# Altium footprint library Passive components.PcbLib: 29 footprints (part 1 of 2)
Each footprint in its own frame and in the unit in brackets; x right, y up, seen from the top. Pads: shape width x height; smd on the part's side, far side on the other; paste and mask are expansions set on the pad; w line width, h text height; cw(c..) or ccw(c..) is an arc to the next point about the centre after c.
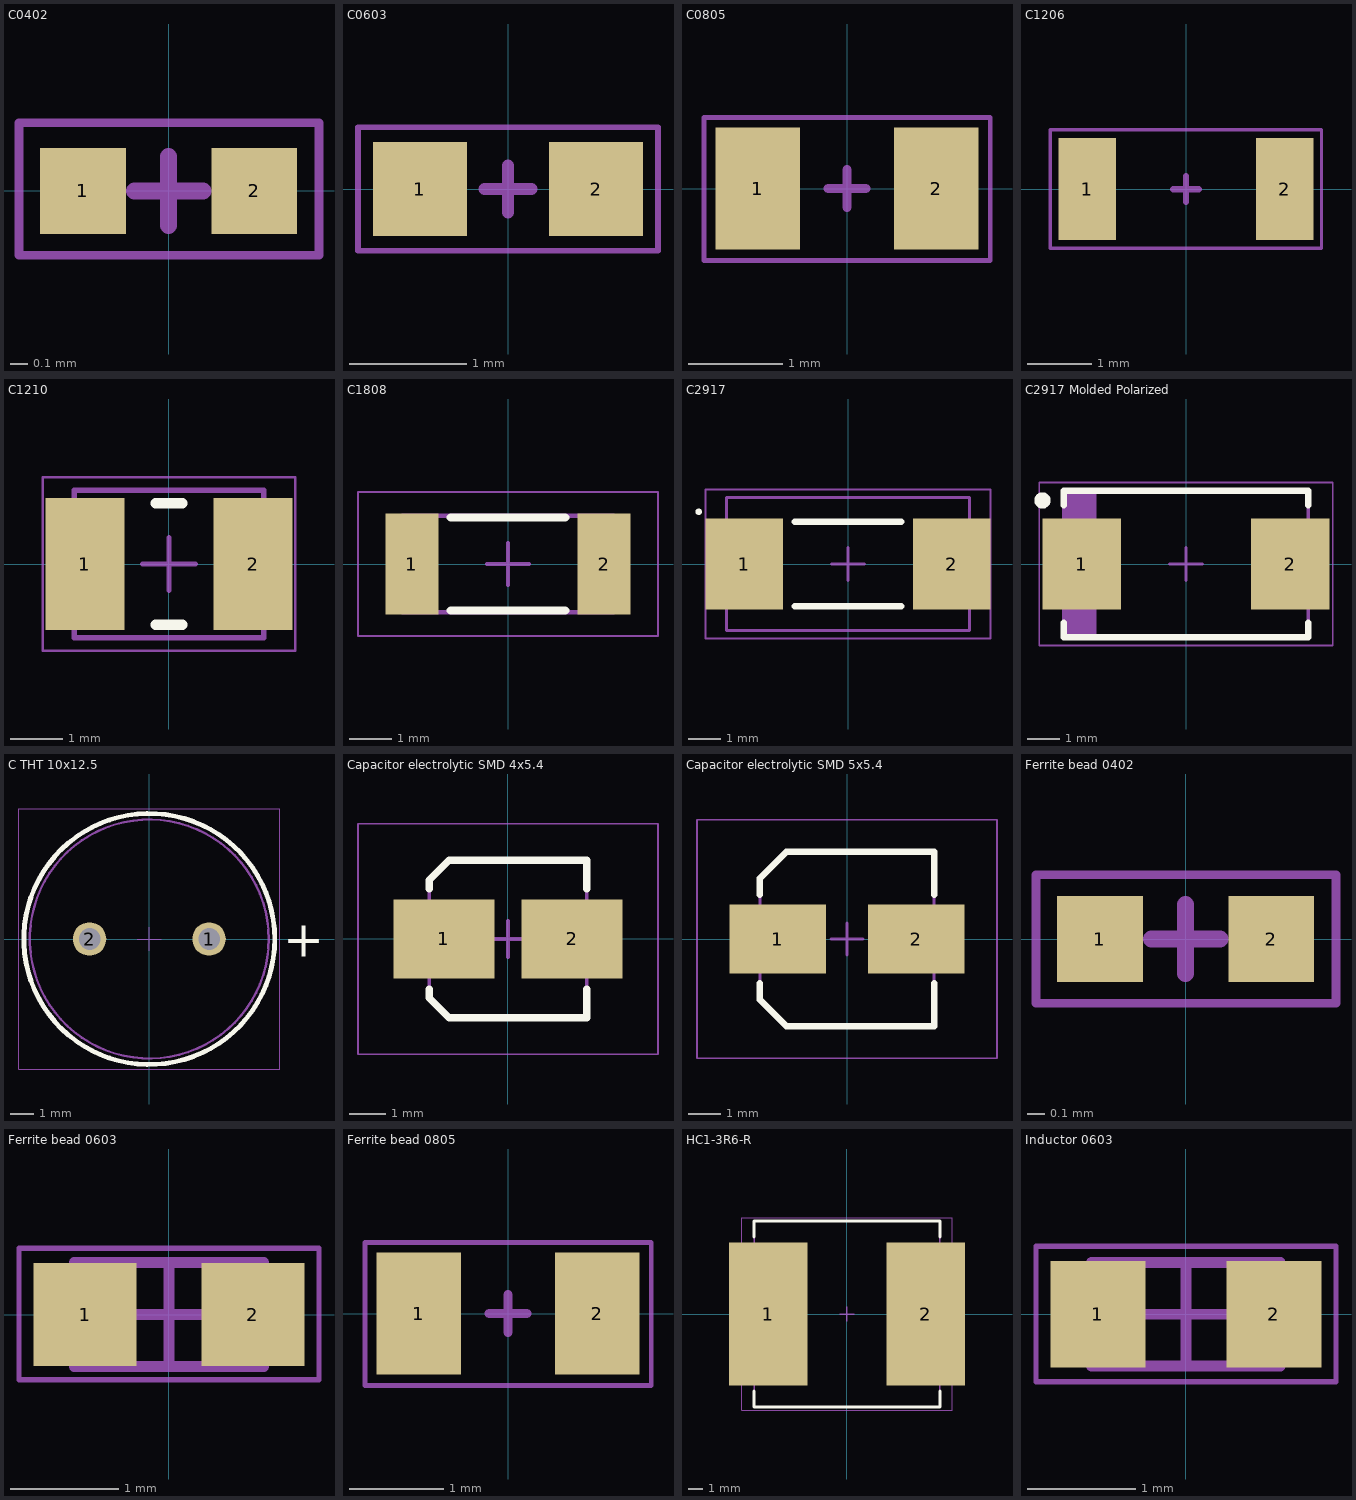
[diagram p0: the footprints below, top view; thin cyan lines are the x and y axes]

## C0402 [mm]
pads (2):
  rect 0.5x0.5 smd: 1(-0.5,0) 2(0.5,0)
Courtyard Top:
  lines w0.05: -0.873,-0.375 0.877,-0.375 0.877,0.398 -0.873,0.398 -0.873,-0.375
  lines w0.1: -0.2,0 0.2,0 ; 0,-0.2 0,0.2
3D body "User Library-C0402-1.STEP": height 0.5, standoff 0, extent -0.498,-0.25 0.498,0.25

## C0603 [mm]
pads (2):
  rect 0.8x0.8 smd: 1(-0.75,0) 2(0.75,0)
Courtyard Top:
  lines w0.05: -1.277,-0.525 -1.277,0.525 1.276,0.525 1.276,-0.525 -1.277,-0.525
  lines w0.1: -0.2,0 0.2,0 ; 0,-0.2 0,0.2
3D body "User Library-C0603-2.STEP": height 0.8, standoff 0, extent -0.8,-0.4 0.8,0.4

## C0805 [mm]
pads (2):
  rect 0.9x1.3 smd: 1(-0.95,0) 2(0.95,0)
Courtyard Top:
  lines w0.05: -1.525,-0.768 1.527,-0.768 1.527,0.758 -1.525,0.758 -1.525,-0.768
  lines w0.1: -0.2,0 0.2,0 ; 0,-0.2 0,0.2
3D body "User Library-C0805-2.STEP": height 0.8, standoff 0, extent -1,-0.625 1,0.625

## C1206 [mm]
pads (2):
  rect 0.9x1.6 smd: 1(-1.55,0) 2(1.55,0)
Courtyard Top:
  lines w0.05: -2.128,-0.926 -2.128,0.931 2.123,0.931 2.123,-0.926 -2.128,-0.926
  lines w0.1: -0.2,0 0.2,0 ; 0,-0.2 0,0.2
3D body "User Library-Chip Cap_MLCC_1206 (3216)_D.STEP": height 1.25, standoff 0, extent -1.6,-0.8 1.6,0.8

## C1210 [mm]
height 2.8
pads (2):
  rect 1.5x2.5 smd: 1(-1.6,0) 2(1.6,0)
Top Overlay:
  lines w0.2: -0.25,-1.15 0.25,-1.15 ; -0.25,1.15 0.25,1.15
Assembly Top:
  lines w0.1: -1.8,-1.4 1.8,-1.4 1.8,1.4 -1.8,1.4 -1.8,-1.4
Courtyard Top:
  lines w0.05: -2.4,-1.65 2.4,-1.65 2.4,1.65 -2.4,1.65 -2.4,-1.65
  lines w0.1: -0.5,0 0.5,0 ; 0,-0.5 0,0.5
3D body "C1210.step": height 2.8, standoff 0, extent -1.8,-1.4 1.8,1.4

## C1808 [mm] "Chip Capacitor, 2-Leads, Body 4.50x2.00mm, IPC Low Density"
height 1.8
pads (2):
  rect 1.25x2.4 smd: 1(-2.275,0) 2(2.275,0)
Top Overlay:
  lines w0.2: -1.35,-1.1 1.35,-1.1 ; -1.35,1.1 1.35,1.1
Assembly Top:
  lines w0.1: -2.5,-1.14 2.5,-1.14 2.5,1.14 -2.5,1.14 -2.5,-1.14
Courtyard Top:
  lines w0.05: -3.55,-1.7 3.55,-1.7 3.55,1.7 -3.55,1.7 -3.55,-1.7
  lines w0.1: -0.5,0 0.5,0 ; 0,-0.5 0,0.5
3D body "C 1808.step": height 1.8, standoff 0, extent -2.5,-1.14 2.5,1.14

## C2917 [mm]
height 2
pads (2):
  rect 2.4x2.8 smd: 1(-3.2,0) 2(3.2,0)
Top Overlay:
  circle w0.1: c-4.612,1.612 r0.05
  lines w0.2: -1.65,-1.3 1.65,-1.3 ; -1.65,1.3 1.65,1.3
Assembly Top:
  lines w0.1: -3.75,-2.05 3.75,-2.05 3.75,2.05 -3.75,2.05 -3.75,-2.05
Courtyard Top:
  lines w0.05: -4.4,-2.3 4.4,-2.3 4.4,2.3 -4.4,2.3 -4.4,-2.3
  lines w0.1: -0.5,0 0.5,0 ; 0,-0.5 0,0.5
3D body "C2917.step": height 2, standoff 0, extent -3.75,-2.05 3.75,2.05

## C2917 Molded Polarized [mm]
height 2
pads (2):
  rect 2.4x2.8 smd: 1(-3.2,0) 2(3.2,0)
Top Overlay:
  circle w0.25: c-4.4,1.95 r0.125
  lines w0.2: -3.75,-1.8 -3.75,-2.25 3.75,-2.25 3.75,-1.8 ; -3.75,1.8 -3.75,2.25 3.75,2.25 3.75,1.8
Assembly Top:
  rectangle: -3.75,-2.25 -2.741,2.25
  lines w0.1: -3.75,-2.25 -3.75,2.25 3.75,2.25 3.75,-2.25 -3.75,-2.25
Courtyard Top:
  lines w0.05: -4.5,-2.5 -4.5,2.5 4.5,2.5 4.5,-2.5 -4.5,-2.5
  lines w0.1: -0.5,0 0.5,0 ; 0,-0.5 0,0.5
3D body "C2917 Molded Polarized.step": height 2, standoff 0, extent -3.97,-2.25 3.97,2.25

## C THT 10x12.5 [mm] "Aluminium Polymer Radial THD Capacitors, 10x12.5mm"
height 14
pads (2):
  round 1.4 hole 0.9: 1(2.5,0) 2(-2.5,0)
Top Overlay:
  circle w0.2: c0,0 r5.25
  text "+" at 5.6,-0.75 h1.5
Mechanical 13:
  circle w0.1: c0,0 r5
Mechanical 15:
  lines w0.05: -0.5,0 0.5,0 ; 0,-0.5 0,0.5 ; -5.45,-5.45 -5.45,5.45 5.45,5.45 5.45,-5.45 -5.45,-5.45
3D body "10x12.5x5x0.6.stp": height 12.81, standoff -19.91, extent -4.99,-5 4.959,4.973

## Capacitor electrolytic SMD 4x5.4 [mm] "Aluminum Electrolytic Capacitor, Body 4.30x4.30x5.40mm, IPC Low Density"
height 5.4
pads (2):
  rect 2.75x2.15 smd: 1(-1.75,0) 2(1.75,0)
Top Overlay:
  lines w0.2: -2.15,-1.375 -2.15,-1.613 -1.612,-2.15 2.15,-2.15 2.15,-1.375 ; -2.15,1.375 -2.15,1.612 -1.612,2.15 2.15,2.15 2.15,1.375
Assembly Top:
  lines w0.1: -2.15,-1.613 -2.15,1.612 -1.612,2.15 2.15,2.15 2.15,-2.15 -1.612,-2.15 -2.15,-1.613
Courtyard Top:
  lines w0.05: -4.1,-3.15 4.1,-3.15 4.1,3.15 -4.1,3.15 -4.1,-3.15
  lines w0.1: -0.5,0 0.5,0 ; 0,-0.5 0,0.5
3D body "CAPAE4643X54M.step": height 5.4, standoff 0, extent -2.3,-2.15 2.3,2.15

## Capacitor electrolytic SMD 5x5.4 [mm] "Aluminum Electrolytic Capacitor, Body 5.30x5.30x5.40mm, IPC Low Density"
height 5.4
pads (2):
  rect 3x2.15 smd: 1(-2.15,0) 2(2.15,0)
Top Overlay:
  lines w0.2: -2.7,-1.375 -2.7,-1.888 -1.888,-2.7 2.7,-2.7 2.7,-1.375 ; -2.7,1.375 -2.7,1.887 -1.888,2.7 2.7,2.7 2.7,1.375
Assembly Top:
  lines w0.1: -2.7,-1.888 -2.7,1.887 -1.888,2.7 2.7,2.7 2.7,-2.7 -1.888,-2.7 -2.7,-1.888
Courtyard Top:
  lines w0.05: -4.65,-3.7 4.65,-3.7 4.65,3.7 -4.65,3.7 -4.65,-3.7
  lines w0.1: -0.5,0 0.5,0 ; 0,-0.5 0,0.5
3D body "CAPAE5753X54M.step": height 5.4, standoff 0, extent -2.85,-2.7 2.85,2.7

## Ferrite bead 0402 [mm]
pads (2):
  rect 0.5x0.5 smd: 1(-0.5,0) 2(0.5,0)
Courtyard Top:
  lines w0.05: -0.873,-0.375 -0.873,0.376 0.877,0.376 0.877,-0.375 -0.873,-0.375
  lines w0.1: -0.2,0 0.2,0 ; 0,-0.2 0,0.2
3D body "User Library-FB_1005.STEP": height 0.5, standoff 0, extent -0.5,-0.25 0.5,0.25

## Ferrite bead 0603 [mm]
height 0.91
pads (2):
  rect 0.95x0.95 smd: 1(-0.775,0) 2(0.775,0)
Assembly Top:
  lines w0.1: -0.875,-0.48 0.875,-0.48 0.875,0.48 -0.875,0.48 -0.875,-0.48
Courtyard Top:
  lines w0.05: -1.385,-0.6 1.386,-0.6 1.386,0.611 -1.385,0.611 -1.385,-0.6
  lines w0.1: -0.48,0 0.48,0 ; 0,-0.48 0,0.48
3D body "User Library-FB_1608-1.STEP": height 0.8, standoff 0, extent -0.794,-0.403 0.806,0.397

## Ferrite bead 0805 [mm]
pads (2):
  rect 0.9x1.3 smd: 1(-0.95,0) 2(0.95,0)
Courtyard Top:
  lines w0.05: -1.525,-0.768 -1.525,0.758 1.527,0.758 1.527,-0.768 -1.525,-0.768
  lines w0.1: -0.2,0 0.2,0 ; 0,-0.2 0,0.2
3D body "User Library-C0805-2.STEP": height 0.8, standoff 0, extent -1,-0.625 1,0.625

## HC1-3R6-R [mm] "13x13mm Eaton inductor"
height 10
pads (2):
  rect 5.5x10 smd: 1(-5.5,0) 2(5.5,0)
Top Overlay:
  lines w0.2: -6.5,-5.4 -6.5,-6.5 6.5,-6.5 6.5,-5.4 ; -6.5,5.4 -6.5,6.5 6.5,6.5 6.5,5.4
Assembly Top:
  lines w0.1: -6.5,-6.5 -6.5,6.5 6.5,6.5 6.5,-6.5 -6.5,-6.5
Courtyard Top:
  lines w0.05: -7.375,-6.75 -7.375,6.75 7.375,6.75 7.375,-6.75 -7.375,-6.75
  lines w0.1: -0.5,0 0.5,0 ; 0,-0.5 0,0.5
3D body "HC1-3R6-R.step": height 10.1, standoff 0, extent -6.6,-6.5 6.6,6.5

## Inductor 0603 [mm]
height 0.91
pads (2):
  rect 0.88x0.99 smd: 1(-0.815,0) 2(0.815,0)
Assembly Top:
  lines w0.1: -0.875,-0.48 0.875,-0.48 0.875,0.48 -0.875,0.48 -0.875,-0.48
Courtyard Top:
  lines w0.05: -1.389,-0.626 1.391,-0.626 1.391,0.631 -1.389,0.631 -1.389,-0.626
  lines w0.1: -0.48,0 0.48,0 ; 0,-0.48 0,0.48
3D body "INDC1608X09N.step": height 0.91, standoff 0, extent -0.875,-0.48 0.875,0.48